# Altium schematic symbol library RederReverse.SchLib: 7 symbols
Pins are listed as number, name and electrical type; pins without a type are passive.

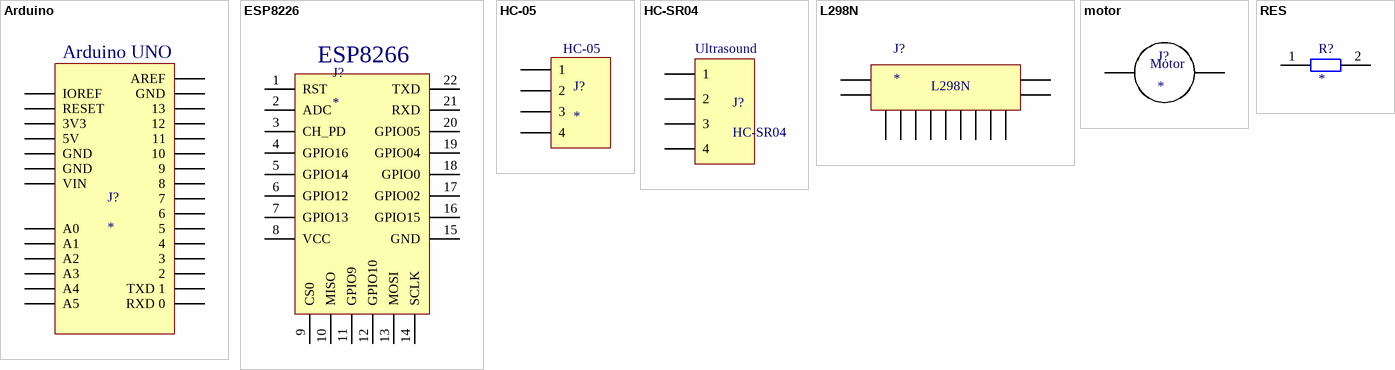
[diagram p0: symbols Arduino to RES]

## Arduino
designator J?
pins: 1 A0, 2 A1, 2 IOREF, 3 A2, 3 RESET, 3 GND, 4 A3, 4 3V3, 4 GND, 5 A4, 5 5V, 5 VIN, 6 RXD 0, 6 A5, 7 TXD 1, 8 2, 9 3, 10 4, 11 5, 12 6, 13 7, 14 8, 15 9, 16 10, 17 11, 18 12, 19 13, 20 GND, 21 AREF
text: Arduino UNO

## ESP8226
designator J?
wifi模块
pins: 1 RST, 2 ADC, 3 CH_PD, 4 GPIO16, 5 GPIO14, 6 GPIO12, 7 GPIO13, 8 VCC, 9 CS0, 10 MISO, 11 GPIO9, 12 GPIO10, 13 MOSI, 14 SCLK, 15 GND, 16 GPIO15, 17 GPIO02, 18 GPIO0, 19 GPIO04, 20 GPIO05, 21 RXD, 22 TXD
text: ESP8266

## HC-05
designator J?
蓝牙插针
pins: 1, 2, 3, 4

## HC-SR04
designator J?
超声波插针
pins: 1, 2, 3, 4
text: Ultrasound

## L298N
designator J?
pins: 1, 2, 3, 4, 4, 4, 5, 5, 5, 6, 6, 7, 7

## motor
designator J?
pins: 1, 2
text: Motor

## RES
designator R?
电阻
pins: 1, 2